# EAGLE library part 5212044-1 (library all-connectors)
5212044-1 TE Connectivity CONN RCPT FMALE DIN 5POS SOLDER
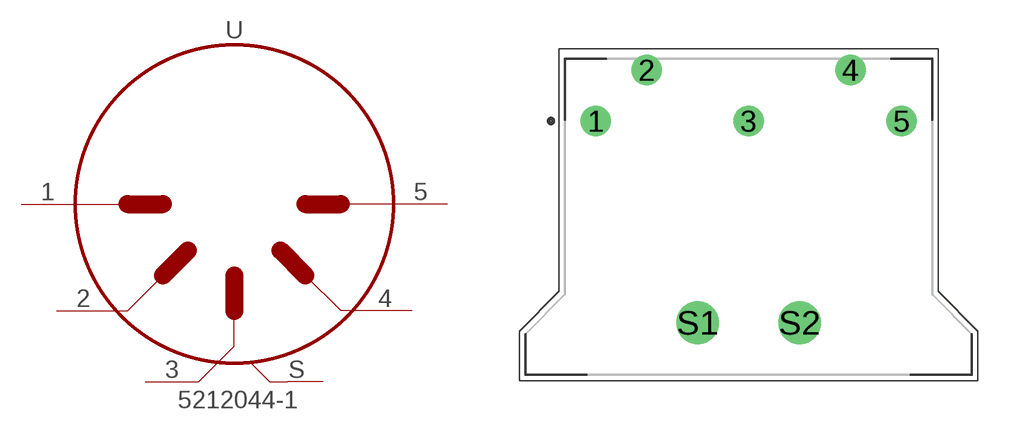
[diagram p23: symbol with the pads of 5212044-1; footprint 5212044-1]

Designator prefix -

## 5212044-1  [5212044-1]
1  P$1
2  P$2
3  P$3
4  P$4
5  P$5
S1  S
S2  S

## Footprint 5212044-1 (pad centres in mm)
https://www.te.com/commerce/DocumentDelivery/DDEController?Action=srchrtrv&DocNm=5212044&DocType=Customer+Drawing&DocLang=English
drill 1: 1 -7.5,4.7; 2 -5,7.2; 3 0,4.7; 4 5,7.2; 5 7.5,4.7
drill 1.4: S1 -2.5,-5.2; S2 2.5,-5.2